# EAGLE library part STM32F030F4P6(TSSOP20) (library __MyCommonLib1)
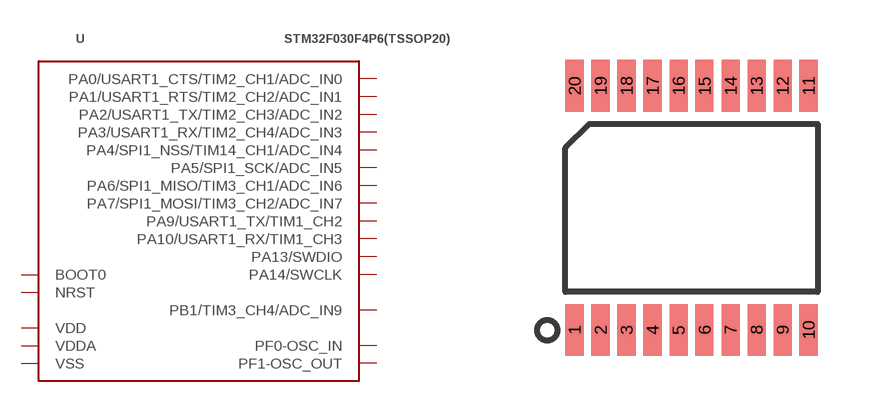
[diagram p27: symbol with the pads of TSSOP20; footprint TSSOP20]

Designator prefix -

## STM32F030F4P6(TSSOP20)(TSSOP20)  [TSSOP20]
1  BOOT0
2  PF0-OSC_IN
3  PF1-OSC_OUT
4  NRST
5  VDDA
6  PA0/USART1_CTS/TIM2_CH1/ADC_IN0
7  PA1/USART1_RTS/TIM2_CH2/ADC_IN1
8  PA2/USART1_TX/TIM2_CH3/ADC_IN2
9  PA3/USART1_RX/TIM2_CH4/ADC_IN3
10  PA4/SPI1_NSS/TIM14_CH1/ADC_IN4
11  PA5/SPI1_SCK/ADC_IN5
12  PA6/SPI1_MISO/TIM3_CH1/ADC_IN6
13  PA7/SPI1_MOSI/TIM3_CH2/ADC_IN7
14  PB1/TIM3_CH4/ADC_IN9
15  VSS
16  VDD
17  PA9/USART1_TX/TIM1_CH2
18  PA10/USART1_RX/TIM1_CH3
19  PA13/SWDIO
20  PA14/SWCLK

## Footprint TSSOP20 (pad centres in mm)
smd 0.45 x 1.3: 1 -2.925,-3.05; 2 -2.275,-3.05; 3 -1.625,-3.05; 4 -0.975,-3.05; 5 -0.325,-3.05; 6 0.325,-3.05; 7 0.975,-3.05; 8 1.625,-3.05; 9 2.275,-3.05; 10 2.925,-3.05; 11 2.925,3.05; 12 2.275,3.05; 13 1.625,3.05; 14 0.975,3.05; 15 0.325,3.05; 16 -0.325,3.05; 17 -0.975,3.05; 18 -1.625,3.05; 19 -2.275,3.05; 20 -2.925,3.05